# Altium schematic symbol library MC34063ADR2G.Schlib: 1 symbol
Pins are listed as number, name and electrical type; pins without a type are passive.

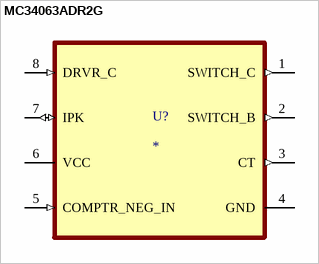
[diagram p0: symbol MC34063ADR2G]

## MC34063ADR2G
designator U?
40V 1.5A (Switch) SOIC-8_150mil DC-DC Converters RoHS; MP: MC34063ADR2G; MF: {'manufacturer': u'ON Semiconductor'}; ComponentLink1Description: LCSC - ON Semiconductor MC34063ADR2G; ComponentLink1URL: https://lcsc.com/product-detail/DC-DC-Converters_ON-Semicon_MC34063ADR2G_ON-Semicon-ON-MC34063ADR2G_C32078.html/?href=jlc-SMT; LCSC Part #: C32078; JLCPCB Part Type: Basic
footprint SOIC127P600X175-8N
pins: 1 SWITCH_C (out), 2 SWITCH_B (out), 3 CT (out), 4 GND (power), 5 COMPTR_NEG_IN (in), 6 VCC (power), 7 IPK (io), 8 DRVR_C (in)